# EAGLE library part CY8C4A45-48 (library PatternAgents-Cypress)
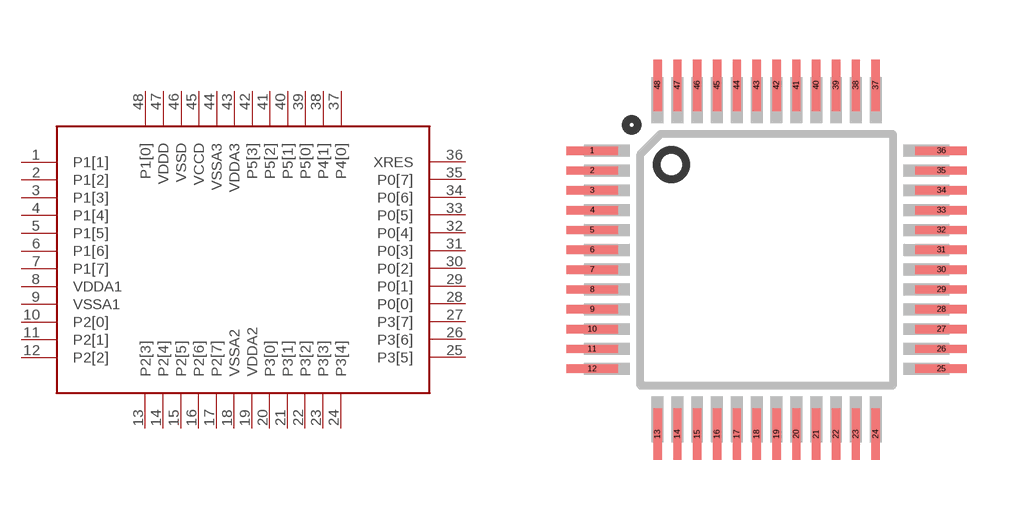
[diagram p38: symbol with the pads of TQFP-7X7-48; footprint TQFP-7X7-48]

Designator prefix -

## CY8C4A45-48  [TQFP-7X7-48]
1  P1[1]
2  P1[2]
3  P1[3]
4  P1[4]
5  P1[5]
6  P1[6]
7  P1[7]
8  VDDA1
9  VSSA1
10  P2[0]
11  P2[1]
12  P2[2]
13  P2[3]
14  P2[4]
15  P2[5]
16  P2[6]
17  P2[7]
18  VSSA2
19  VDDA2
20  P3[0]
21  P3[1]
22  P3[2]
23  P3[3]
24  P3[4]
25  P3[5]
26  P3[6]
27  P3[7]
28  P0[0]
29  P0[1]
30  P0[2]
31  P0[3]
32  P0[4]
33  P0[5]
34  P0[6]
35  P0[7]
36  XRES
37  P4[0]
38  P4[1]
39  P5[0]
40  P5[1]
41  P5[2]
42  P5[3]
43  VDDA3
44  VSSA3
45  VCCD
46  VSSD
47  VDDD
48  P1[0]

## Footprint TQFP-7X7-48 (pad centres in mm)
TQFP-S-7X7-44 Thin Plastic Quad Flatpack with 48 pins Square 7mm x 7mm x 1.4mm Data Source: http://www.cypress.com/file/68171/download LBR Source: http://www.patternagents.com THIS SOFTWARE IS PROVIDED BY THE CONTRIBUTORS "AS IS" AND WITHOUT ANY EXPRESS OR IMPLIED WARRANTIES, INCLUDING, BUT NOT LIMITED TO, THE IMPLIED WARRANTIES OF MERCHANTABILITY AND FITNESS FOR A PARTICULAR PURPOSE ARE DISCLAIMED. IN NO EVENT SHALL THE COPYRIGHT OWNER OR CONTRIBUTORS BE LIABLE FOR ANY DIRECT, INDIRECT, INCIDENTAL, SPECIAL, EXEMPLARY, OR CONSEQUENTIAL DAMAGES (INCLUDING, BUT NOT LIMITED TO, PROCUREMENT OF SUBSTITUTE GOODS OR SERVICES; LOSS OF USE, DATA, OR PROFITS; OR BUSINESS INTERRUPTION) HOWEVER CAUSED AND ON ANY THEORY OF LIABILITY, WHETHER IN CONTRACT, STRICT LIABILITY, OR TORT (INCLUDING NEGLIGENCE OR OTHERWISE) ARISING IN ANY WAY OUT OF THE USE OF THIS SOFTWARE, EVEN IF ADVISED OF THE POSSIBILITY OF SUCH DAMAGE.
smd 1.3 x 0.21: 1 -4.4,2.75; 2 -4.4,2.25; 3 -4.4,1.75; 4 -4.4,1.25; 5 -4.4,0.75; 6 -4.4,0.25; 7 -4.4,-0.25; 8 -4.4,-0.75; 9 -4.4,-1.25; 10 -4.4,-1.75; 11 -4.4,-2.25; 12 -4.4,-2.75; 25 4.4,-2.75; 26 4.4,-2.25; 27 4.4,-1.75; 28 4.4,-1.25; 29 4.4,-0.75; 30 4.4,-0.25; 31 4.4,0.25; 32 4.4,0.75; 33 4.4,1.25; 34 4.4,1.75; 35 4.4,2.25; 36 4.4,2.75
smd 0.21 x 1.3: 13 -2.75,-4.4; 14 -2.25,-4.4; 15 -1.75,-4.4; 16 -1.25,-4.4; 17 -0.75,-4.4; 18 -0.25,-4.4; 19 0.25,-4.4; 20 0.75,-4.4; 21 1.25,-4.4; 22 1.75,-4.4; 23 2.25,-4.4; 24 2.75,-4.4; 37 2.75,4.4; 38 2.25,4.4; 39 1.75,4.4; 40 1.25,4.4; 41 0.75,4.4; 42 0.25,4.4; 43 -0.25,4.4; 44 -0.75,4.4; 45 -1.25,4.4; 46 -1.75,4.4; 47 -2.25,4.4; 48 -2.75,4.4